# EAGLE library part 750052237 (library Wurth Electronics Midcom Inc V1-0)
Package Style: Non Standard EP13 SMD Mounting: SMD Pins: 16 pins Bobbin: 070-4483 Windings Primary: Aux: Secondary: Best pinouts for production vary per application. Please contact Wurth Electronics Midcom, Inc. for assistance with your custom design. Datasheet: 750052237 <http://www.we-online.com/web/en/index.php/show/media/passive_components_-_custom_magnetics/pdf_doc_files/spec_sheets/7500/750052237.pdf> Website: Wurth Electronics Midcom <http://www.we-online.com/midcom> Contact us Wurth Electronics Midcom, Inc. 121 Airport Dr. Watertown, SD 57201 Phone: (605) 886-4385 Fax: (605) 886-4486 E-Mail: midcom@we-online.com
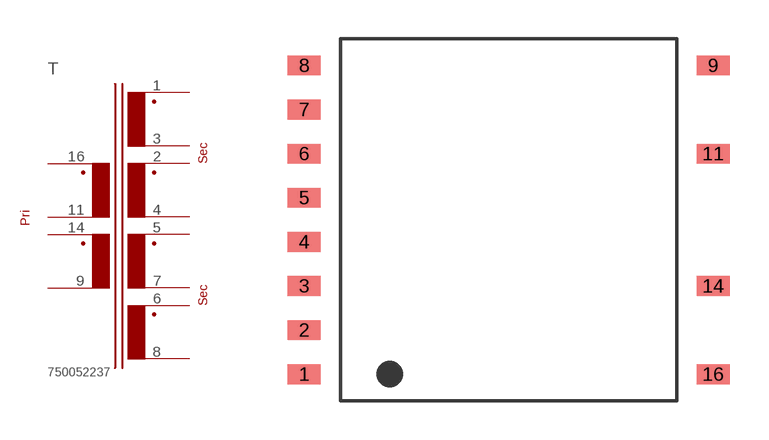
[diagram p40: symbol with the pads of 99NONSTANDARD_EP13_SMD_12PIN; footprint 99NONSTANDARD_EP13_SMD_12PIN]

Designator prefix T

## 750052237  [99NONSTANDARD_EP13_SMD_12PIN]
1  4  pas
2  2  pas
3  3  pas
4  1  pas
5  16  pas
6  14  pas
7  15  pas
8  13  pas
9  5  pas
11  7  pas
14  6  pas
16  8  pas

## Footprint 99NONSTANDARD_EP13_SMD_12PIN (pad centres in mm)
Package Style: Speedy EP13 Mounting: SMD Pins: 16 pins Bobbin: 070-4481
smd 1.27 x 0.762: 1 -7.887,-5.956; 2 -7.887,-4.255; 3 -7.887,-2.553; 4 -7.887,-0.851; 5 -7.887,0.851; 6 -7.887,2.553; 7 -7.887,4.255; 8 -7.887,5.956; 9 7.887,5.956; 11 7.887,2.553; 14 7.887,-2.553; 16 7.887,-5.956